# EAGLE library part PROTOBOARD_16X6 (library SophiEaglev9)
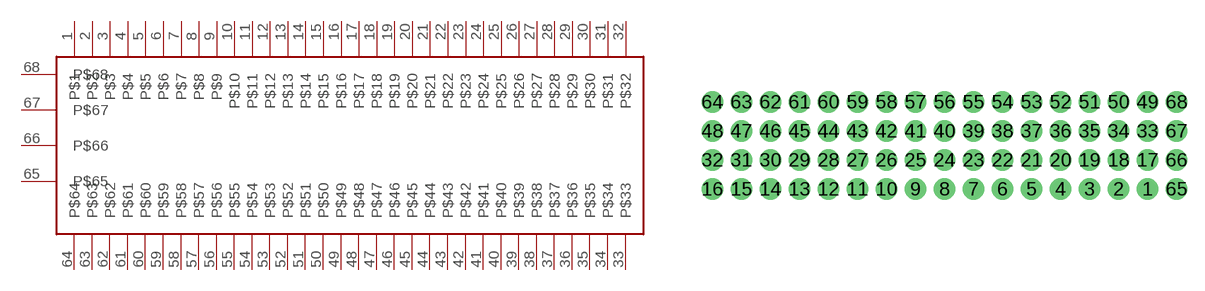
[diagram p7: symbol with the pads of PROTOBOARD_16X6; footprint PROTOBOARD_16X6]

Designator prefix -

## PROTOBOARD_16X6  [PROTOBOARD_16X6]
1  P$1
2  P$2
3  P$3
4  P$4
5  P$5
6  P$6
7  P$7
8  P$8
9  P$9
10  P$10
11  P$11
12  P$12
13  P$13
14  P$14
15  P$15
16  P$16
17  P$17
18  P$18
19  P$19
20  P$20
21  P$21
22  P$22
23  P$23
24  P$24
25  P$25
26  P$26
27  P$27
28  P$28
29  P$29
30  P$30
31  P$31
32  P$32
33  P$33
34  P$34
35  P$35
36  P$36
37  P$37
38  P$38
39  P$39
40  P$40
41  P$41
42  P$42
43  P$43
44  P$44
45  P$45
46  P$46
47  P$47
48  P$48
49  P$49
50  P$50
51  P$51
52  P$52
53  P$53
54  P$54
55  P$55
56  P$56
57  P$57
58  P$58
59  P$59
60  P$60
61  P$61
62  P$62
63  P$63
64  P$64
65  P$65
66  P$66
67  P$67
68  P$68

## Footprint PROTOBOARD_16X6 (pad centres in mm)
drill 1.016 pad 1.88: 1 39.37,1.27; 2 36.83,1.27; 3 34.29,1.27; 4 31.75,1.27; 5 29.21,1.27; 6 26.67,1.27; 7 24.13,1.27; 8 21.59,1.27; 9 19.05,1.27; 10 16.51,1.27; 11 13.97,1.27; 12 11.43,1.27; 13 8.89,1.27; 14 6.35,1.27; 15 3.81,1.27; 16 1.27,1.27; 17 39.37,3.81; 18 36.83,3.81; 19 34.29,3.81; 20 31.75,3.81; 21 29.21,3.81; 22 26.67,3.81; 23 24.13,3.81; 24 21.59,3.81; 25 19.05,3.81; 26 16.51,3.81; 27 13.97,3.81; 28 11.43,3.81; 29 8.89,3.81; 30 6.35,3.81; 31 3.81,3.81; 32 1.27,3.81; 33 39.37,6.35; 34 36.83,6.35; 35 34.29,6.35; 36 31.75,6.35; 37 29.21,6.35; 38 26.67,6.35; 39 24.13,6.35; 40 21.59,6.35; 41 19.05,6.35; 42 16.51,6.35; 43 13.97,6.35; 44 11.43,6.35; 45 8.89,6.35; 46 6.35,6.35; 47 3.81,6.35; 48 1.27,6.35; 49 39.37,8.89; 50 36.83,8.89; 51 34.29,8.89; 52 31.75,8.89; 53 29.21,8.89; 54 26.67,8.89; 55 24.13,8.89; 56 21.59,8.89; 57 19.05,8.89; 58 16.51,8.89; 59 13.97,8.89; 60 11.43,8.89; 61 8.89,8.89; 62 6.35,8.89; 63 3.81,8.89; 64 1.27,8.89; 65 41.91,1.27; 66 41.91,3.81; 67 41.91,6.35; 68 41.91,8.89